# Altium schematic symbol library ADR292ERZ.SchLib: 2 symbols
Pins are listed as number, name and electrical type; pins without a type are passive.

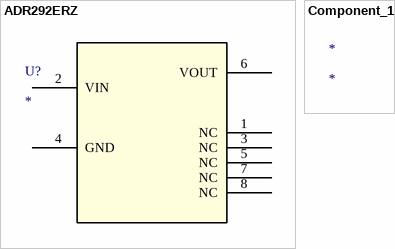
[diagram p0: symbols ADR292ERZ to Component_1]

## ADR292ERZ
designator U?
No Description Available; Mfr_Name: Analog Devices Inc; RefDes: RefDes; Type: Type
footprint R_8_ADI
pins: 1 NC, 2 VIN, 3 NC, 4 GND, 5 NC, 6 VOUT, 7 NC, 8 NC

## Component_1
designator *